# Altium schematic symbol library AltiumDesigner.SchLib: 2 symbols
Pins are listed as number, name and electrical type; pins without a type are passive.

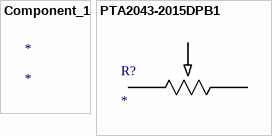
[diagram p0: symbols Component_1 to PTA2043-2015DPB1]

## Component_1
designator *

## PTA2043-2015DPB1
designator R?
Imported; Manufacturer_Part_Number: PTA2043-2015DPB103; Vendor: Bourns Electronics; Built_By: EMA_UL_Team; C: Copyright (C) 2015 Accelerated Designs. All rights reserved; Value: Value
pins: 1, 2, 3